# Altium schematic symbol library C电容.SchLib: 3 symbols
Pins are listed as number, name and electrical type; pins without a type are passive.

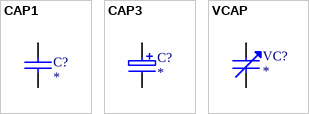
[diagram p0: symbols CAP1 to VCAP]

## CAP1
designator C?
footprint RAD0.15
footprint RAD0.1
footprint RAD0.2
footprint RAD0.5
pins: 1, 2

## CAP3
designator C?
footprint RB1
footprint RB2
footprint RB3
footprint RB4
pins: 1, 2

## VCAP
designator VC?
footprint VBC
pins: 1, 2